# Altium schematic symbol library ESP32-S3-WROOM-1.SchLib: 61 symbols (part 7 of 7)
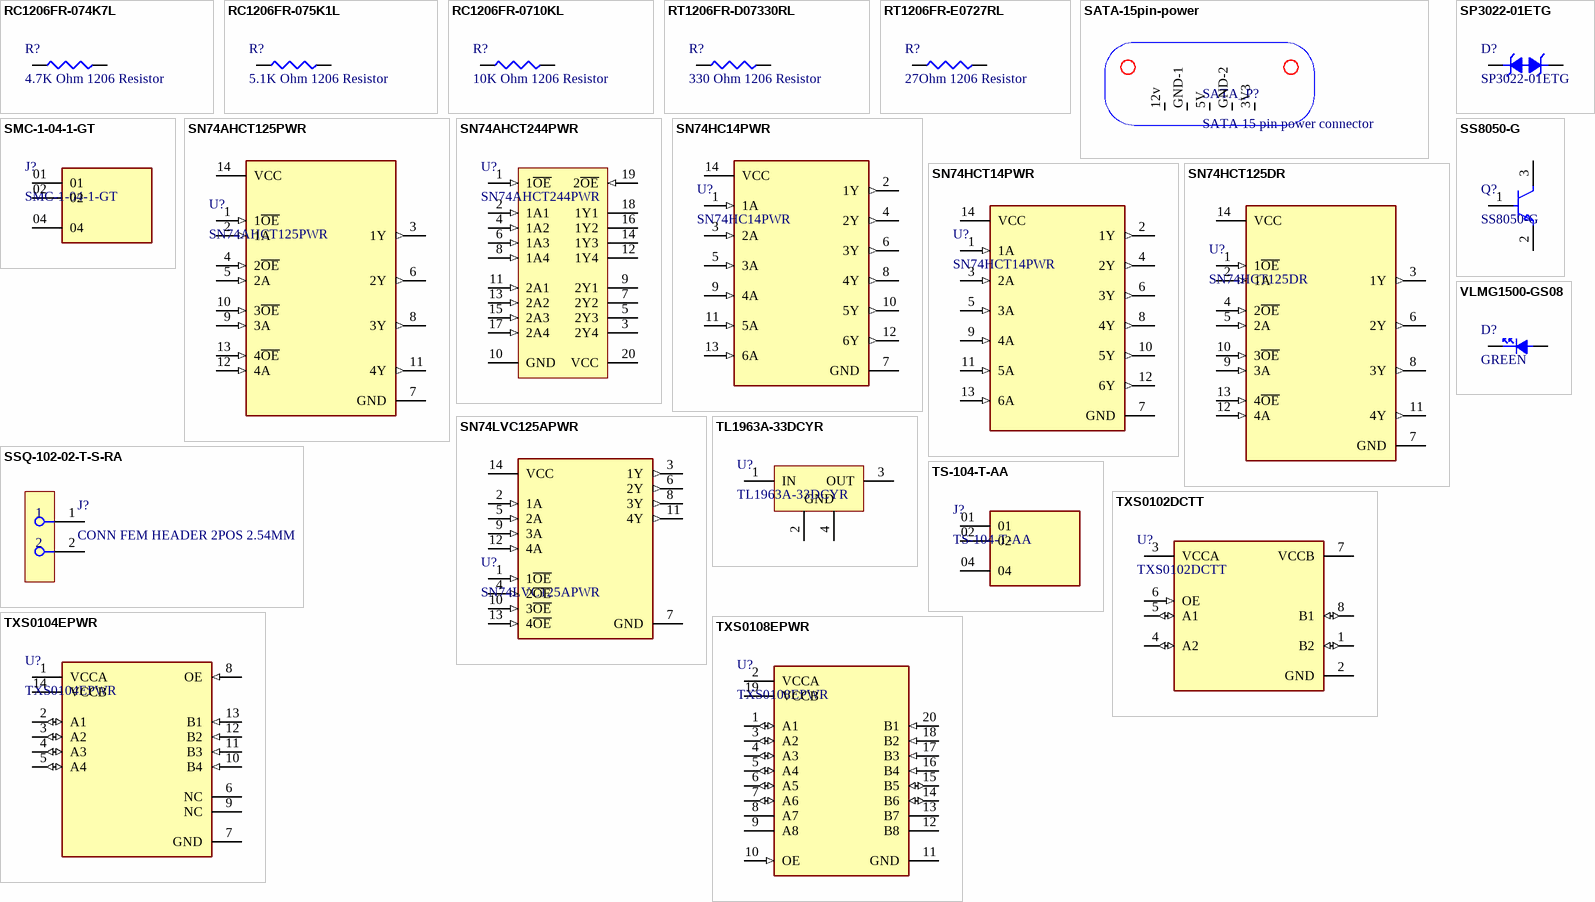
[diagram p7: symbols RC1206FR-074K7L to VLMG1500-GS08]

## TXS0108EPWR
designator U?
IC XLTR VL BIDIR 20-TSSOP; Manufacturer: Texas Instruments; Manufacturer Lifecycle Status: ACTIVE; Data Rate: 60Mbps; High Level Output Current: -50mA; Logic Function: Translator; Low Level Output Current: 50mA; Max Junction Temperature (Tj): 150°C; Max Supply Voltage: 5.5V; Min Supply Voltage: 1.4V; Nominal Supply Current: 3µA; Number of Bits: 8; Number of Circuits: 1; Output Current: 620µA; Output Type: Voltage; Propagation Delay: 112ns; Rise Time: 6.3ns; Turn-On Delay Time: 312ns; Supplier: DigiKey; Supplier Part Number: 296-23011-1-ND; Manufacturer Part Number: TXS0108EPWR; RoHS: Compliant; Category: Voltage Level Shifters; Stock: 26619; Pricing: 1=1.14, 1=1.34, 10=0.831, 10=0.975, 25=1.14, 25=0.8832, 100=0.6669, 100=0.7825, 250=0.626, 250=0.73448, 500=0.61028, 500=0.71604, 2000=0.6621, 4000=0.64596, 6000=0.63788, 10000=0.62892, 14000=0.62369 (EUR); Ambient Temperature Range High: 85°C; Case/Package: TSSOP; Contact Plating: Gold; Height: 0m; Lead Free: Lead Free; Length: 6.5mm; Lifecycle Status: Production; Max Operating Temperature: 85°C; Min Operating Temperature: -40°C; Mounting Technology: Surface Mount; Number of Channels: 8; Number of Inputs: 8; Number of Outputs: 8; Pins: 20; Packaging: Cut Tape; Quiescent Current: 3µA; Radiation Hardening: No; REACH SVHC: No; Schedule B: 8542390000, 8542390000|8542390000|8542390000|8542390000|8542390000; Termination: SMD/SMT; Thickness: 1mm; Weight: 76.997305mg; Width: 4.4mm; ComponentLink1URL: https://sigma.octopart.com:443/157851284/technical_drawing/Texas-Instruments-TXS0108EPWR.pdf?src-supplier=Texas+Instruments; ComponentLink1Description: https://sigma.octopart.com:443/157851284/technical_drawing/Texas-Instruments-TXS0108EPWR.pdf?src-supplier=Texas+Instruments; ComponentLink2URL: https://octopart.com:443/opatz8j6/c1?t=NPg61q9ydUF4fOuzs17YvdBnZXuMeR-2-6htKr1c5OrgHIe3g47f-94f21uk0kOql9r320ATDg6fPYZjx9SHo8no9-XVAdT5ts3zdlchslm2LZr6UrREW20h-GW4WvevFUKpPe6Qt1epEcD4IhvGHw1kIhR06hzCfWqD7ust2h4gb_a5mijVssLRkcVR7AQ2V2xOdQ09V2qIfv84C95KAiSjwkk4TqMP_i8BLYBReyAka2d4TmbjB2WXlL8kMRV6K2mYhKU_vOxxIPplVRP_hVDUPjIYBGIHxAotxO2oYNxSqSBcgp8VmgZXvEPVoT1zu5JVrrlUn-h2IFogxZuegGmbWNgsvF7HGBkk0pm-MBOM0ZnzxN-PH3mx8T5grJ5h4k0OBfI&src-supplier=Texas+Instruments; ComponentLink2Description: https://octopart.com:443/opatz8j6/c1?t=NPg61q9ydUF4fOuzs17YvdBnZXuMeR-2-6htKr1c5OrgHIe3g47f-94f21uk0kOql9r320ATDg6fPYZjx9SHo8no9-XVAdT5ts3zdlchslm2LZr6UrREW20h-GW4WvevFUKpPe6Qt1epEcD4IhvGHw1kIhR06hzCfWqD7ust2h4gb_a5mijVssLRkcVR7AQ2V2xOdQ09V2qIfv84C95KAiSjwkk4TqMP_i8BLYBReyAka2d4TmbjB2WXlL8kMRV6K2mYhKU_vOxxIPplVRP_hVDUPjIYBGIHxAotxO2oYNxSqSBcgp8VmgZXvEPVoT1zu5JVrrlUn-h2IFogxZuegGmbWNgsvF7HGBkk0pm-MBOM0ZnzxN-PH3mx8T5grJ5h4k0OBfI&src-supplier=Texas+Instruments; ComponentLink3URL: https://datasheet.octopart.com:443/TXS0108EPWR-Texas-Instruments-datasheet-10257968.pdf?src-supplier=Texas+Instruments; ComponentLink3Description: https://datasheet.octopart.com:443/TXS0108EPWR-Texas-Instruments-datasheet-10257968.pdf?src-supplier=Texas+Instruments; ComponentLink4URL: https://sigma.octopart.com:443/49249835/technical_drawing/Texas-Instruments-TXS0108EPWR.pdf?src-supplier=Texas+Instruments; ComponentLink4Description: https://sigma.octopart.com:443/49249835/technical_drawing/Texas-Instruments-TXS0108EPWR.pdf?src-supplier=Texas+Instruments; ComponentLink5URL: https://datasheet.octopart.com:443/TXS0108EPWR-Texas-Instruments-datasheet-34155243.pdf?src-supplier=element14+APAC; ComponentLink5Description: https://datasheet.octopart.com:443/TXS0108EPWR-Texas-Instruments-datasheet-34155243.pdf?src-supplier=element14+APAC; ComponentLink6URL: https://datasheet.octopart.com:443/TXS0108EPWR-Texas-Instruments-datasheet-101601150.pdf?src-supplier=element14+APAC; ComponentLink6Description: https://datasheet.octopart.com:443/TXS0108EPWR-Texas-Instruments-datasheet-101601150.pdf?src-supplier=element14+APAC; ComponentLink7URL: https://datasheet.octopart.com:443/TXS0108EPWR.-Texas-Instruments-datasheet-66618007.pdf?src-supplier=element14+APAC; ComponentLink7Description: https://datasheet.octopart.com:443/TXS0108EPWR.-Texas-Instruments-datasheet-66618007.pdf?src-supplier=element14+APAC; ComponentLink8URL: https://datasheet.octopart.com:443/TXS0108EPWR.-Texas-Instruments-datasheet-62089077.pdf?src-supplier=element14+APAC; ComponentLink8Description: https://datasheet.octopart.com:443/TXS0108EPWR.-Texas-Instruments-datasheet-62089077.pdf?src-supplier=element14+APAC; ComponentLink9URL: https://datasheet.octopart.com:443/TXS0108EPWR-Texas-Instruments-datasheet-21821524.pdf?src-supplier=element14+APAC; ComponentLink9Description: https://datasheet.octopart.com:443/TXS0108EPWR-Texas-Instruments-datasheet-21821524.pdf?src-supplier=element14+APAC; ComponentLink10URL: https://datasheet.octopart.com:443/TXS0108EPWR-Texas-Instruments-datasheet-157246788.pdf?src-supplier=ODG+(Origin+Data+Global); ComponentLink10Description: https://datasheet.octopart.com:443/TXS0108EPWR-Texas-Instruments-datasheet-157246788.pdf?src-supplier=ODG+(Origin+Data+Global); ComponentLink11URL: https://datasheet.octopart.com:443/TXS0108EPWR-Texas-Instruments-datasheet-15851133.pdf?src-supplier=Newark; ComponentLink11Description: https://datasheet.octopart.com:443/TXS0108EPWR-Texas-Instruments-datasheet-15851133.pdf?src-supplier=Newark; ComponentLink12URL: https://datasheet.octopart.com:443/TXS0108EPWR-Texas-Instruments-datasheet-25361057.pdf?src-supplier=Newark; ComponentLink12Description: https://datasheet.octopart.com:443/TXS0108EPWR-Texas-Instruments-datasheet-25361057.pdf?src-supplier=Newark; ComponentLink13URL: https://datasheet.octopart.com:443/TXS0108EPWR-Texas-Instruments-datasheet-159118391.pdf?src-supplier=LCSC; ComponentLink13Description: https://datasheet.octopart.com:443/TXS0108EPWR-Texas-Instruments-datasheet-159118391.pdf?src-supplier=LCSC; ComponentLink14URL: https://datasheet.octopart.com:443/TXS0108EPWR-Texas-Instruments-datasheet-104531687.pdf?src-supplier=TME; ComponentLink14Description: https://datasheet.octopart.com:443/TXS0108EPWR-Texas-Instruments-datasheet-104531687.pdf?src-supplier=TME; ComponentLink15URL: https://datasheet.octopart.com:443/TXS0108EPWR-Texas-Instruments-datasheet-140572054.pdf?src-supplier=Arrow.cn; ComponentLink15Description: https://datasheet.octopart.com:443/TXS0108EPWR-Texas-Instruments-datasheet-140572054.pdf?src-supplier=Arrow.cn; ComponentLink16URL: https://datasheet.octopart.com:443/TXS0108EPWR-Texas-Instruments-datasheet-137316104.pdf?src-supplier=Future+Electronics; ComponentLink16Description: https://datasheet.octopart.com:443/TXS0108EPWR-Texas-Instruments-datasheet-137316104.pdf?src-supplier=Future+Electronics; ComponentLink17URL: https://datasheet.octopart.com:443/TXS0108EPWR-Texas-Instruments-datasheet-14151909.pdf?src-supplier=iiiC; ComponentLink17Description: https://datasheet.octopart.com:443/TXS0108EPWR-Texas-Instruments-datasheet-14151909.pdf?src-supplier=iiiC; ComponentLink18URL: https://datasheet.octopart.com:443/TXS0108EPWR-Texas-Instruments-datasheet-11046612.pdf?src-supplier=Farnell; ComponentLink18Description: https://datasheet.octopart.com:443/TXS0108EPWR-Texas-Instruments-datasheet-11046612.pdf?src-supplier=Farnell; ComponentLink19URL: https://datasheet.octopart.com:443/TXS0108EPWR-Texas-Instruments-datasheet-5325602.pdf?src-supplier=Farnell; ComponentLink19Description: https://datasheet.octopart.com:443/TXS0108EPWR-Texas-Instruments-datasheet-5325602.pdf?src-supplier=Farnell; ComponentLink20URL: http://sigma.octopart.com:80/conflict_mineral_statement/Texas-Instruments-company-63.pdf?src-supplier=Compliance+Statements; ComponentLink20Description: http://sigma.octopart.com:80/conflict_mineral_statement/Texas-Instruments-company-63.pdf?src-supplier=Compliance+Statements; ComponentLink21URL: http://sigma.octopart.com:80/reach_statement/Texas-Instruments-company-64.pdf?src-supplier=Compliance+Statements; ComponentLink21Description: http://sigma.octopart.com:80/reach_statement/Texas-Instruments-company-64.pdf?src-supplier=Compliance+Statements; LCSC Part Number: C17206
footprint TXS0108EPWR
pins: 1 A1 (io), 2 VCCA (power), 3 A2 (io), 4 A3 (io), 5 A4 (io), 6 A5 (io), 7 A6 (io), 8 A7, 9 A8, 10 OE (in), 11 GND (power), 12 B8, 13 B7, 14 B6 (io), 15 B5 (io), 16 B4 (in), 17 B3 (in), 18 B2 (in), 19 VCCB (power), 20 B1 (in)

## VLMG1500-GS08
designator D?, comment GREEN
LED YLW-GRN 0402 SMD; Manufacturer: Vishay; Manufacturer Part Number: VLMG1500-GS08; Color: Green, Yellow; Dominant Wavelength: 571nm; Forward Current: 30mA; Forward Voltage: 2.4V; Lens Color: Clear; Lens Style: Rectangular; Luminous Intensity: 18mcd; Number of Circuits: 1; Power Dissipation: 75mW; Reverse Voltage: 5V; Test Current: 20mA; Viewing Angle: 130°; Supplier: DigiKey; Supplier Part Number: VLMG1500-GS08DKR-ND; RoHS: Compliant; Category: LEDs; Stock: 249321; Pricing: 1=0.2, 10=0.14, 100=0.2, 500=0.07856, 1000=0.07219 (EUR); Ambient Temperature Range High: 85°C; Case/Package: 0402; Case Code (Imperial): 0402; Case Code (Metric): 1005; Depth: 500µm; Height: 350µm; Illumination Color: Green; Lead Free: Lead Free; Length: 1mm; Lifecycle Status: Production; Max Operating Temperature: 85°C; Min Operating Temperature: -30°C; Mounting Technology: Surface Mount; Number of Elements: 1; Number of LEDs: 1; Pins: 2; Number of Terminals: 2; Packaging: Cut Tape; Peak Wavelength: 571nm; Power Rating: 75mW; Radiation Hardening: No; REACH SVHC: Yes; Schedule B: 8541402000, 8541402000|8541402000|8541402000|8541402000|8541402000; Shape: Rectangular; Terminal Pitch: 675µm; Wavelength: 571nm; Width: 500µm; ComponentLink1URL: https://datasheet.octopart.com:443/VLMG1500-GS08-Vishay-datasheet-181477802.pdf?src-supplier=IHS; ComponentLink1Description: https://datasheet.octopart.com:443/VLMG1500-GS08-Vishay-datasheet-181477802.pdf?src-supplier=IHS; ComponentLink2URL: https://datasheet.octopart.com:443/VLMG1500-GS08-Vishay-datasheet-21227148.pdf?src-supplier=element14+APAC; ComponentLink2Description: https://datasheet.octopart.com:443/VLMG1500-GS08-Vishay-datasheet-21227148.pdf?src-supplier=element14+APAC; ComponentLink3URL: https://datasheet.octopart.com:443/VLMG1500-GS08-Vishay-datasheet-33014519.pdf?src-supplier=element14+APAC; ComponentLink3Description: https://datasheet.octopart.com:443/VLMG1500-GS08-Vishay-datasheet-33014519.pdf?src-supplier=element14+APAC; ComponentLink4URL: https://datasheet.octopart.com:443/VLMG1500-GS08-Vishay-datasheet-62332426.pdf?src-supplier=Newark; ComponentLink4Description: https://datasheet.octopart.com:443/VLMG1500-GS08-Vishay-datasheet-62332426.pdf?src-supplier=Newark; ComponentLink5URL: https://datasheet.octopart.com:443/VLMG1500-GS08-Vishay-datasheet-102762782.pdf?src-supplier=Future+Electronics; ComponentLink5Description: https://datasheet.octopart.com:443/VLMG1500-GS08-Vishay-datasheet-102762782.pdf?src-supplier=Future+Electronics; ComponentLink6URL: https://datasheet.octopart.com:443/VLMG1500-GS08-Vishay-datasheet-68326145.pdf?src-supplier=TME; ComponentLink6Description: https://datasheet.octopart.com:443/VLMG1500-GS08-Vishay-datasheet-68326145.pdf?src-supplier=TME; ComponentLink7URL: http://sigma.octopart.com:80/rohs_statement/Vishay-company-15.pdf?src-supplier=Compliance+Statements; ComponentLink7Description: http://sigma.octopart.com:80/rohs_statement/Vishay-company-15.pdf?src-supplier=Compliance+Statements; LCSC Part Number: C511404
footprint VLMG1500-GS08
pins: 1, 2